# EAGLE library part 52892-2095 (library molex)
CONNECTOR, FPC, ZIF, 0.50MM, 20WAY
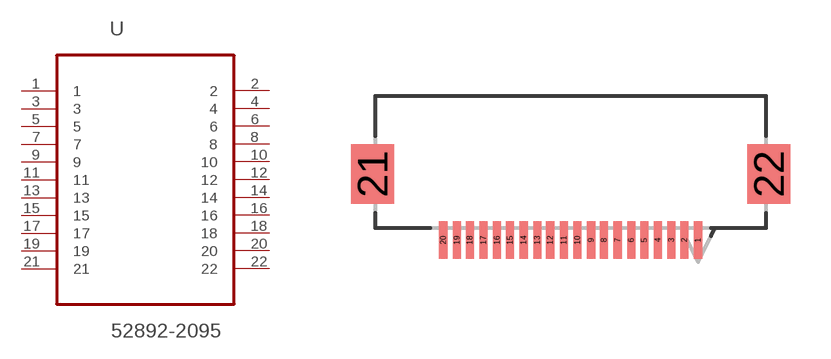
[diagram p33: symbol with the pads of MOLEX_52892-2095; footprint MOLEX_52892-2095]

Designator prefix U

## 52892-2095 (MPN: 52892-2095; OC_FARNELL: 1556809; OC_NEWARK: 92M6604; PACKAGE: CONNECTOR, FPC, ZIF, 0.50MM, 20WAY; SUPPLIER: Molex)  [MOLEX_52892-2095]
1  1  pas
2  2  pas
3  3  pas
4  4  pas
5  5  pas
6  6  pas
7  7  pas
8  8  pas
9  9  pas
10  10  pas
11  11  pas
12  12  pas
13  13  pas
14  14  pas
15  15  pas
16  16  pas
17  17  pas
18  18  pas
19  19  pas
20  20  pas
21  21  pas
22  22  pas

## Footprint MOLEX_52892-2095 (pad centres in mm)
smd 0.305 x 1.397: 1 4.75,2.896; 2 4.242,2.896; 3 3.759,2.896; 4 3.251,2.896; 5 2.743,2.896; 6 2.261,2.896; 7 1.753,2.896; 8 1.245,2.896; 9 0.762,2.896; 10 0.254,2.896; 11 -0.254,2.896; 12 -0.762,2.896; 13 -1.245,2.896; 14 -1.753,2.896; 15 -2.261,2.896; 16 -2.743,2.896; 17 -3.251,2.896; 18 -3.759,2.896; 19 -4.242,2.896; 20 -4.75,2.896
smd 1.6 x 2.21: 21 -7.391,5.359; 22 7.391,5.359